# Altium schematic symbol library PBL - Resistors.SCHLIB: 223 symbols (part 2 of 4)
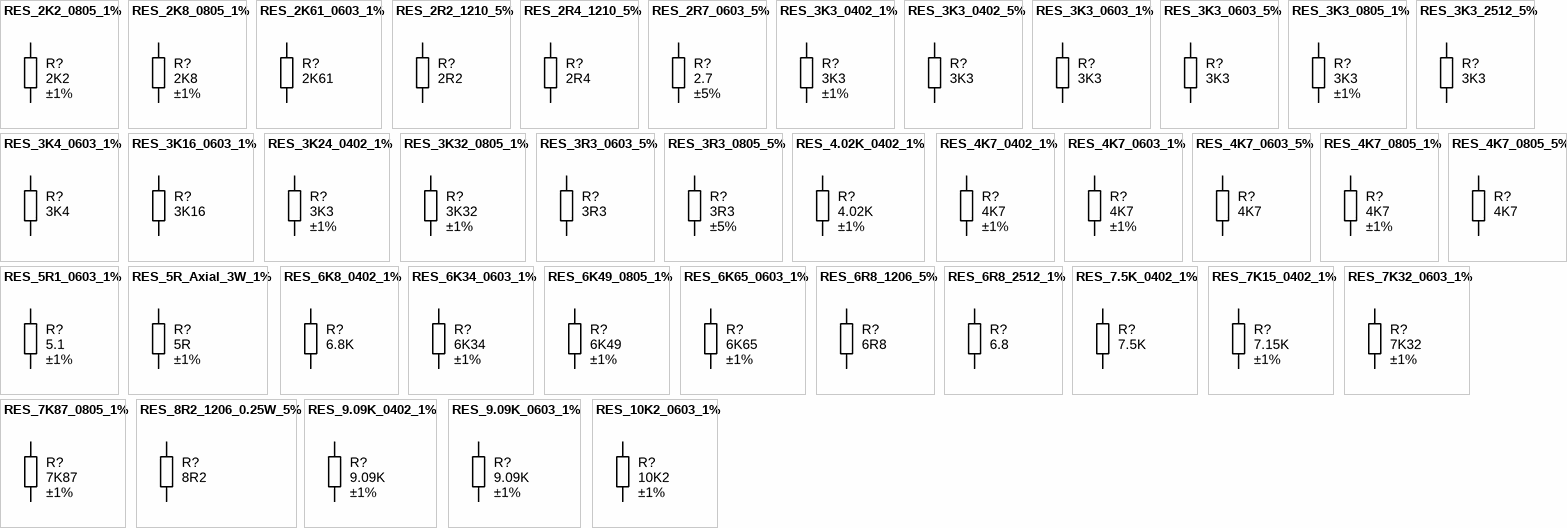
[diagram p7: symbols RES_2K2_0805_1% to RES_10K2_0603_1%]

## RES_4K7_0805_5%
designator R?, comment value 4K7  (hidden comment: Thick Film)
Resistor SMD chip 4.7k Ohm 0.125W 5% 0805; Manufacturer 1: Yageo; Manufacturer Part Number 1: RC0805JR-074K7L; Ratings: 1/8 W; SCDType: spec; Package / Case: 0805 (2012 metric); Tolerance: ±5%; Material: Thick Film; Supplier 1: Digi-Key; Supplier Part Number 1: 311-4.7KARCT-ND
footprint RESC2012X70N (Chip Resistor, Body 2.0x1.2mm, 0805, IPC Medium Density)
pins: 1, 2

## RES_5R1_0603_1%
designator R?, comment value 5.1  Tolerance: ±1%  (hidden comment: Thick Film)
Resistor SMD chip 5.1 Ohm 0.1W 1% 0603; Manufacturer: Yageo; Manufacturer Part Number: RC0603FR-075R1L; Power (Watts): 0.1W, 1/10W; Temperature Coefficient: ±200ppm/°C; Supplier 1: Digi-Key; Supplier Part Number 1: YAG3372CT-ND; RoHS: RoHS Compliant; Category: Resistors; Stock 1: 155319; Pricing 1: 1=0.1, 10=0.022, 100=0.009, 1000=0.00402, 2500=0.00349 (USD); Packaging: Cut Tape (CT); Part Status: Active; Composition: Thick Film; Features: Moisture Resistant; Operating Temperature: -55°C ~ 155°C; Package / Case: 0603 (1608 Metric); Supplier Device Package: 0603; Size / Dimension: 0.063" L x 0.031" W (1.60mm x 0.80mm); Height - Seated (Max): 0.022" (0.55mm); Failure Rate: -; ComponentLink1URL: http://www.yageo.com/documents/recent/PYu-RC_Group_51_RoHS_L_7.pdf; ComponentLink1Description: http://www.yageo.com/documents/recent/PYu-RC_Group_51_RoHS_L_7.pdf
footprint RESC1608X55N (Chip Resistor, Body 1.6x0.8mm, 0603, IPC Medium Density)
pins: 1, 2

## RES_5R_Axial_3W_1%
designator R?, comment value 5R  Tolerance: ±1%  (hidden comment: Wirewound)
Resistor THD 5 Ohm 3W 1% Wirewound; Manufacturer 1: Vishay/Dale; Manufacturer Part Number 1: RS02B5R000FE70; SCDType: spec; Package / Case: 4.75x15.80mm DxL; Ratings: 3W; Material: Wirewound; Size / Dimension: 0.187" Dia x 0.622" L (4.75mm x 15.80mm); ComponentLink1URL: http://www.vishay.com/doc?30204; ComponentLink1Description: http://www.vishay.com/doc?30204; Supplier 1: Digi-Key; Supplier Part Number 1: RSB-5.0RCT-ND
footprint RESTH_AXIAL_RS02B (Axial Resistor Thru-Hole; 2 Leads)
pins: 1, 2

## RES_6K8_0402_1%
designator R?, comment value 6.8K  (hidden comment: Thick Film)
Resistor SMD chip 6.8K Ohm 0.063W 1% 0402; Ratings: 1/16 W; SCDType: spec; Package / Case: 0402 (1005 metric); Tolerance: ±1%; Material: Thick Film; ComponentLink1URL: http://www.vishay.com/doc?20035; ComponentLink1Description: http://www.vishay.com/doc?20035; ComponentLink2URL: http://www.yageo.com/documents/recent/PYu-RC0402_51_RoHS_L_6.pdf; ComponentLink2Description: http://www.yageo.com/documents/recent/PYu-RC0402_51_RoHS_L_6.pdf; Supplier 1: Digi-Key; Supplier Part Number 1: 311-6.80KLRCT-ND
footprint RESC1005X40N (Chip Resistor, Body 1.0x0.5mm, EIA 0402, IPC Medium Density)
pins: 1, 2

## RES_6K34_0603_1%
designator R?, comment value 6K34  Tolerance: ±1%  (hidden comment: Thick Film)
Resistor SMD chip 6.34k Ohm 0.1W 1% 0603; Manufacturer 1: Yageo; Manufacturer Part Number 1: RC0603FR-076K34L; Ratings: 1/10W; SCDType: spec; Package / Case: 0603 (1608 Metric); Supplier 1: Digi-Key; Supplier Part Number 1: 311-6.34KHRCT-ND
footprint RESC1608X55N (Chip Resistor, Body 1.6x0.8mm, 0603, IPC Medium Density)
pins: 1, 2

## RES_6K49_0805_1%
designator R?, comment value 6K49  Tolerance: ±1%  (hidden comment: Thick Film)
Resistor SMD chip 6.49k Ohm 0.125W 1% 0805; Manufacturer: Vishay/Dale; Manufacturer Part Number: CRCW08056K49FKEA; Ratings: 1/8W; SCDType: spec; Package / Case: 0805 (2012 metric); Supplier 1: Digi-Key; Supplier Part Number 1: 541-6.49KCCT-ND
footprint RESC2012X70N (Chip Resistor, Body 2.0x1.2mm, 0805, IPC Medium Density)
pins: 1, 2

## RES_6K65_0603_1%
designator R?, comment value 6K65  Tolerance: ±1%  (hidden comment: Thick Film)
Resistor SMD chip 6.65k Ohm 0.1W 1% 0603; Manufacturer 1: Yageo; Manufacturer Part Number 1: RC0603FR-076K65L; Ratings: 1/10W; SCDType: spec; Package / Case: 0603 (1608 Metric); Supplier 1: Digi-Key; Supplier Part Number 1: 311-6.65KHRCT-ND; ComponentLink1URL: http://www.yageo.com/documents/recent/PYu-RC0603_51_RoHS_L_4.pdf; ComponentLink1Description: http://www.yageo.com/documents/recent/PYu-RC0603_51_RoHS_L_4.pdf
footprint RESC1608X55N (Chip Resistor, Body 1.6x0.8mm, 0603, IPC Medium Density)
pins: 1, 2

## RES_6R8_1206_5%
designator R?, comment value 6R8  (hidden comment: Thick Film)
Resistor SMD chip 6.8 Ohm 0.25W 5% 1206; Manufacturer 1: Vishay/Dale; Manufacturer Part Number 1: CRCW12066R80JNEA; Ratings: 1/4W; SCDType: spec; Tolerance: ±5%; Package / Case: 1206 (3216 metric); Supplier 1: Digi-Key; Supplier Part Number 1: 541-6.8ECT-ND
footprint RESC3216X70N (Chip Resistor, Body 3.2x1.6mm, 1206, IPC Medium Density)
pins: 1, 2

## RES_6R8_2512_1%
designator R?, comment value 6.8  (hidden comment: Thick Film)
RES SMD 6.8 OHM 5% 3W 2512; Tolerance: ±5%; Supplier 1: Digi-Key; Supplier Part Number 1: A121299CT-ND
footprint RESC6332X70N (Chip Resistor, Body 6.3x3.2mm, 2512, IPC Medium Density)
pins: 1, 2

## RES_7.5K_0402_1%
designator R?, comment value 7.5K  (hidden comment: Thick Film)
Resistor SMD chip 7.5k Ohm 0.063W 1% 0402; Ratings: 1/16 W; Package / Case: 0402 (1005 Metric); Tolerance: ±1%; Supplier 1: Digi-Key; Supplier Part Number 1: 311-7.50KLRCT-ND
footprint RESC1005X40N (Chip Resistor, Body 1.0x0.5mm, EIA 0402, IPC Medium Density)
pins: 1, 2

## RES_7K15_0402_1%
designator R?, comment value 7.15K  Tolerance: ±1%  (hidden comment: Thick Film)
Resistor SMD chip 7.15K 1% 0402; Manufacturer: Yageo; Manufacturer Part Number: RC0603FR-074K7L; Ratings: 1/10W; SCDType: undef; Package / Case: 0402 (1608 Metric); Supplier 1: Digi-Key; Supplier Part Number 1: P7.15KLCT-ND
footprint RESC1005X40N (Chip Resistor, Body 1.0x0.5mm, EIA 0402, IPC Medium Density)
pins: 1, 2

## RES_7K32_0603_1%
designator R?, comment value 7K32  Tolerance: ±1%  (hidden comment: Thick Film)
Resistor SMD chip 7.32 kOhm 0.1W 1% 0603; Manufacturer 1: Panasonic Electronic Components; Manufacturer Part Number 1: ERJ-3EKF7321V; Ratings: 1/10W; SCDType: Spec; Package / Case: 0603 (1608 Metric); Supplier 1: Digi-Key; Supplier Part Number 1: P7.32KHCT-ND; RoHS 1: RoHS Compliant; ComponentLink1URL: http://industrial.panasonic.com/www-cgi/jvcr13pz.cgi?E+PZ+3+AOA0002+ERJ3EKF7321V+7+WW; ComponentLink1Description: http://industrial.panasonic.com/www-cgi/jvcr13pz.cgi?E+PZ+3+AOA0002+ERJ3EKF7321V+7+WW; Supplier 2: Digi-Key; Supplier Part Number 2: 311-7.32KHRCT-ND; Manufacturer 2: Yageo; Manufacturer Part Number 2: RC0603FR-077K32L; RoHS 2: RoHS Compliant; ComponentLink2URL: http://www.yageo.com/documents/recent/PYu-RC0603_51_RoHS_L_4.pdf; ComponentLink2Description: http://www.yageo.com/documents/recent/PYu-RC0603_51_RoHS_L_4.pdf; Supplier 3: Digi-Key; Supplier Part Number 3: 541-7.32KHCT-ND; Manufacturer 3: Vishay Dale; Manufacturer Part Number 3: CRCW06037K32FKEA; RoHS 3: RoHS Compliant; ComponentLink3URL: http://www.vishay.com/doc?20035; ComponentLink3Description: http://www.vishay.com/doc?20035; Supplier 4: Digi-Key; Supplier Part Number 4: RHM7.32KCFCT-ND; Manufacturer 4: Rohm Semiconductor; Manufacturer Part Number 4: MCR03ERTF7321; RoHS 4: RoHS Compliant; ComponentLink4URL: http://rohmfs.rohm.com/en/products/databook/datasheet/passive/resistor/chip_resistor/mcr_g.pdf; ComponentLink4Description: http://rohmfs.rohm.com/en/products/databook/datasheet/passive/resistor/chip_resistor/mcr_g.pdf
footprint RESC1608X55N (Chip Resistor, Body 1.6x0.8mm, 0603, IPC Medium Density)
pins: 1, 2

## RES_7K87_0805_1%
designator R?, comment value 7K87  Tolerance: ±1%  (hidden comment: Thick Film)
Resistor SMD chip 7.87k Ohm 0.125W 1% 0805; Manufacturer 1: Vishay/Dale; Manufacturer Part Number 1: CRCW08057K87FKEA; Ratings: 1/8W; SCDType: spec; Package / Case: 0805 (2012 metric); Supplier 1: Digi-Key; Supplier Part Number 1: 541-7.87KCCT-ND
footprint RESC2012X70N (Chip Resistor, Body 2.0x1.2mm, 0805, IPC Medium Density)
pins: 1, 2

## RES_8R2_1206_0.25W_5%
designator R?, comment value 8R2  (hidden comment: Thick Film)
Resistor SMD chip 8.2 Ohm 0.25W 5% 1206; Manufacturer 1: Royal Ohm; Manufacturer Part Number 1: 1206WAJ08R2; Ratings: 1/4 W; SCDType: spec; Package / Case: 1206 (3216 metric); Tolerance: ±5%
footprint RESC3216X70N (Chip Resistor, Body 3.2x1.6mm, 1206, IPC Medium Density)
pins: 1, 2

## RES_9.09K_0402_1%
designator R?, comment value 9.09K  Tolerance: ±1%  (hidden comment: Thick Film)
Resistor SMD chip 9.09K Ohm 0.063W 1% 0402; Ratings: 1/16 W; SCDType: spec; Package / Case: 0402 (1005 Metric); ComponentLink1URL: http://www.vishay.com/doc?20035; ComponentLink1Description: http://www.vishay.com/doc?20035; ComponentLink2URL: http://www.yageo.com/documents/recent/PYu-RC0402_51_RoHS_L_6.pdf; ComponentLink2Description: http://www.yageo.com/documents/recent/PYu-RC0402_51_RoHS_L_6.pdf; Supplier 1: Digi-Key; Supplier Part Number 1: YAG3268CT-ND
footprint RESC1005X40N (Chip Resistor, Body 1.0x0.5mm, EIA 0402, IPC Medium Density)
pins: 1, 2

## RES_9.09K_0603_1%
designator R?, comment value 9.09K  Tolerance: ±1%  (hidden comment: Thick Film)
Resistor SMD chip 9.09K Ohm 0.063W 1% 0603; Manufacturer: Panasonic; Manufacturer Part Number: ERJ-3EKF9091V; Description: Res Thick Film 0603 9.09K Ohm 1% 0.1W(1/10W) ±100ppm/C Molded SMD Automotive Punched T/R; Rated Power: 0.1 W; Temp Coefficient: ±100 ppm/°C; Resistance: 9.09 kO; Supplier 1: Digi-Key; Supplier Part Number 1: P9.09KHCT-ND; Stock 1: 268358; Pricing 1: 1=0.1, 10=0.079, 100=0.0323, 1000=0.0145, 2500=0.0126 (USD); Size Code: 0603; Tolerance (%): ±1 %
footprint RESC1608X55N (Chip Resistor, Body 1.6x0.8mm, EIA 0603, IPC Medium Density)
pins: 1, 2

## RES_10K2_0603_1%
designator R?, comment value 10K2  Tolerance: ±1%  (hidden comment: Thick Film)
Resistor SMD chip 10.2K Ohm 0.1W 1% 0603; Manufacturer 1: Yageo; Manufacturer Part Number 1: RC0603FR-0710K2L; Ratings: 1/10W; Parameter Name: ±100ppm/°C; SCDType: undef; Package / Case: 0603 (1608 Metric); ComponentLink1URL: http://www.yageo.com/documents/recent/PYu-RC0603_51_RoHS_L_4.pdf; ComponentLink1Description: http://www.yageo.com/documents/recent/PYu-RC0603_51_RoHS_L_4.pdf; Supplier 1: Digi-Key; Supplier Part Number 1: 311-10.2KHRCT-ND
footprint RESC1608X55N (Chip Resistor, Body 1.6x0.8mm, 0603, IPC Medium Density)
pins: 1, 2

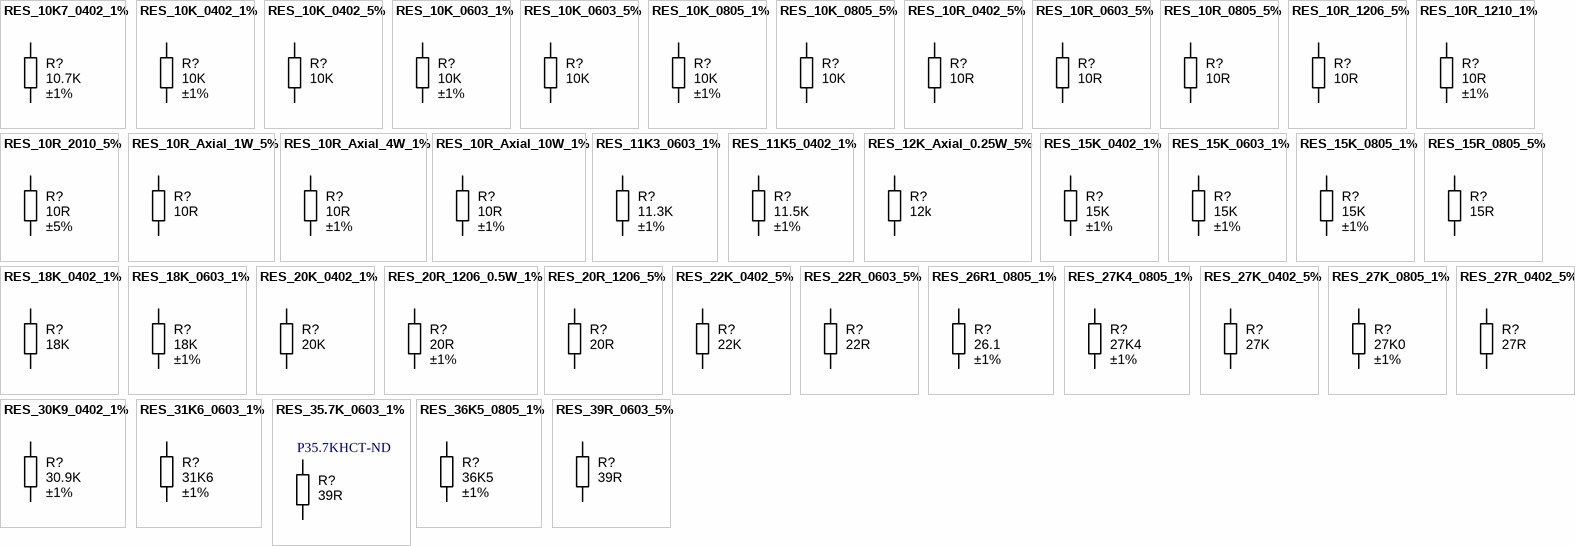
[diagram p2: symbols RES_10K7_0402_1% to RES_39R_0603_5%]

## RES_10K7_0402_1%
designator R?, comment value 10.7K  Tolerance: ±1%  (hidden comment: Thick Film)
Resistor SMD chip 10.7K 1% 0402; Manufacturer: Yageo; Manufacturer Part Number: RC0603FR-074K7L; Ratings: 1/10W; SCDType: undef; Package / Case: 0402 (1608 Metric); Supplier 1: Digi-Key; Supplier Part Number 1: P10.7KLCT-ND
footprint RESC1005X40N (Chip Resistor, Body 1.0x0.5mm, EIA 0402, IPC Medium Density)
pins: 1, 2

## RES_10K_0402_1%
designator R?, comment value 10K  Tolerance: ±1%  (hidden comment: Thick Film)
Resistor SMD chip 10k Ohm 0.063W 1% 0402; Manufacturer 1: Vishay Dale; Manufacturer Part Number 1: CRCW040210K0FKED; Ratings: 1/16 W; SCDType: spec; Package / Case: 0402 (1005 Metric); Manufacturer 2: Yageo; Manufacturer Part Number 2: RC0402FR-0710KL; Supplier 1: Digi-Key; Supplier Part Number 1: 541-10.0KLCT-ND; ComponentLink1URL: http://www.vishay.com/doc?20035; ComponentLink1Description: http://www.vishay.com/doc?20035; Supplier 2: Digi-Key; Supplier Part Number 2: 311-10.0KLRCT-ND; ComponentLink2URL: http://www.yageo.com/documents/recent/PYu-RC0402_51_RoHS_L_6.pdf; ComponentLink2Description: http://www.yageo.com/documents/recent/PYu-RC0402_51_RoHS_L_6.pdf
footprint RESC1005X40N (Chip Resistor, Body 1.0x0.5mm, EIA 0402, IPC Medium Density)
pins: 1, 2

## RES_10K_0402_5%
designator R?, comment value 10K  (hidden comment: Thick Film)
Resistor SMD chip 10k Ohm 0.063W 5% 0402; Ratings: 1/16 W; SCDType: undef; Package / Case: 0402 (1005 Metric); Tolerance: ±5%; ComponentLink1URL: http://www.vishay.com/doc?20035; ComponentLink1Description: http://www.vishay.com/doc?20035; ComponentLink2URL: http://www.yageo.com/documents/recent/PYu-RC0402_51_RoHS_L_6.pdf; ComponentLink2Description: http://www.yageo.com/documents/recent/PYu-RC0402_51_RoHS_L_6.pdf; Supplier 1: Digi-Key; Supplier Part Number 1: 311-10KJRCT-ND
footprint RESC1005X40N (Chip Resistor, Body 1.0x0.5mm, EIA 0402, IPC Medium Density)
pins: 1, 2

## RES_10K_0603_1%
designator R?, comment value 10K  Tolerance: ±1%  (hidden comment: Thick Film)
Resistor SMD chip 10k Ohm 0.1W 1% 0603; Manufacturer 1: Yageo; Manufacturer Part Number 1: RC0603FR-0710KL; Ratings: 1/10W; SCDType: spec; Package / Case: 0603 (1608 Metric); Supplier 1: Digi-Key; Supplier Part Number 1: 311-10.0KHRCT-ND
footprint RESC1608X55N (Chip Resistor, Body 1.6x0.8mm, 0603, IPC Medium Density)
pins: 1, 2

## RES_10K_0603_5%
designator R?, comment value 10K  (hidden comment: Thick Film)
Resistor SMD chip 10k Ohm 0.1W 5% 0603; Manufacturer 1: Yageo; Manufacturer Part Number 1: RC0603JR-0710KL; Ratings: 1/10 W; SCDType: spec; Package / Case: 0603 (1608 metric); Tolerance: ±5%; Material: Thick Film; Supplier 1: Digi-Key; Supplier Part Number 1: 311-10KGRCT-ND; Supplier 2: Digi-Key; Supplier Part Number 2: 541-10KGCT-ND; Manufacturer 2: Vishay Dale; Manufacturer Part Number 2: CRCW060310K0JNEA; ComponentLink2URL: http://www.vishay.com/doc?20035; ComponentLink2Description: http://www.vishay.com/doc?20035; ComponentLink1URL: http://www.yageo.com/documents/recent/PYu-RC0603_51_RoHS_L_4.pdf; ComponentLink1Description: http://www.yageo.com/documents/recent/PYu-RC0603_51_RoHS_L_4.pdf
footprint RESC1608X55N (Chip Resistor, Body 1.6x0.8mm, 0603, IPC Medium Density)
pins: 1, 2

## RES_10K_0805_1%
designator R?, comment value 10K  Tolerance: ±1%  (hidden comment: Thick Film)
Resistor SMD chip 10k Ohm 0.125W 1% 0805; Manufacturer 1: Vishay/Dale; Manufacturer Part Number 1: CRCW080510K0FKEA; Ratings: 1/8W; SCDType: spec; Package / Case: 0805 (2012 metric); Supplier 1: Digi-Key; Supplier Part Number 1: 541-10.0KCCT-ND; Material: Thick Film
footprint RESC2012X70N (Chip Resistor, Body 2.0x1.2mm, 0805, IPC Medium Density)
pins: 1, 2

## RES_10K_0805_5%
designator R?, comment value 10K  (hidden comment: Thick Film)
Resistor SMD chip 10k Ohm 0.125W 5% 0805; Manufacturer 1: Yageo; Manufacturer Part Number 1: RC0805JR-0710KL; Ratings: 1/8 W; SCDType: spec; Package / Case: 0805 (2012 metric); Tolerance: ±5%; Material: Thick Film; Supplier 1: Digi-Key; Supplier Part Number 1: 311-10KARCT-ND
footprint RESC2012X70N (Chip Resistor, Body 2.0x1.2mm, 0805, IPC Medium Density)
pins: 1, 2

## RES_10R_0402_5%
designator R?, comment value 10R  (hidden comment: Thick Film)
Resistor SMD chip 10 Ohm 0.063W 5% 0402; Manufacturer 1: Yageo; Manufacturer Part Number 1: RC0402JR-0710RL; Ratings: 1/16 W; SCDType: spec; Package / Case: 0402 (1005 Metric); Tolerance: ±5%; Supplier 1: Digi-Key; Supplier Part Number 1: 311-10JRCT-ND; RoHS 1: RoHS Compliant; ComponentLink1URL: http://www.yageo.com/documents/recent/PYu-RC0402_51_RoHS_L_6.pdf; ComponentLink1Description: http://www.yageo.com/documents/recent/PYu-RC0402_51_RoHS_L_6.pdf; Supplier 2: Digi-Key; Supplier Part Number 2: RHM10CECT-ND; Manufacturer 2: Rohm Semiconductor; Manufacturer Part Number 2: MCR01MRTJ100; RoHS 2: RoHS Compliant; ComponentLink2URL: http://rohmfs.rohm.com/en/products/databook/datasheet/passive/resistor/chip_resistor/mcr_g.pdf; ComponentLink2Description: http://rohmfs.rohm.com/en/products/databook/datasheet/passive/resistor/chip_resistor/mcr_g.pdf; Supplier 3: Digi-Key; Supplier Part Number 3: 541-10JCT-ND; Manufacturer 3: Vishay Dale; Manufacturer Part Number 3: CRCW040210R0JNED; RoHS 3: RoHS Compliant; ComponentLink3URL: http://www.vishay.com/doc?20035; ComponentLink3Description: http://www.vishay.com/doc?20035; Supplier 4: Digi-Key; Supplier Part Number 4: RMCF0402JT10R0CT-ND; Manufacturer 4: Stackpole Electronics Inc; Manufacturer Part Number 4: RMCF0402JT10R0; RoHS 4: RoHS Compliant; ComponentLink4URL: http://www.seielect.com/Catalog/SEI-RMCF_RMCP.pdf; ComponentLink4Description: http://www.seielect.com/Catalog/SEI-RMCF_RMCP.pdf; Supplier 5: Digi-Key; Supplier Part Number 5: 1276-4328-1-ND; Manufacturer 5: Samsung Electro-Mechanics America, Inc; Manufacturer Part Number 5: RC1005J100CS; RoHS 5: RoHS Compliant; ComponentLink5URL: http://www.samsungsem.com/servlet/FileDownload?filename=productcatalog/pdf/Chip_Resistor.pdf; ComponentLink5Description: http://www.samsungsem.com/servlet/FileDownload?filename=productcatalog/pdf/Chip_Resistor.pdf
footprint RESC1005X40N (Chip Resistor, Body 1.0x0.5mm, EIA 0402, IPC Medium Density)
pins: 1, 2

## RES_10R_0603_5%
designator R?, comment value 10R  (hidden comment: Thick Film)
Resistor SMD chip 10 Ohm 0.1W 5% 0603; Manufacturer 1: Yageo; Manufacturer Part Number 1: RC0603JR-0710RL; Ratings: 1/10 W; SCDType: spec; Package / Case: 0603 (1608 metric); Tolerance: ±5%; Supplier 1: Digi-Key; Supplier Part Number 1: 311-10GRCT-ND; ComponentLink1URL: http://www.yageo.com/documents/recent/PYu-RC0603_51_RoHS_L_4.pdf; ComponentLink1Description: http://www.yageo.com/documents/recent/PYu-RC0603_51_RoHS_L_4.pdf
footprint RESC1608X55N (Chip Resistor, Body 1.6x0.8mm, 0603, IPC Medium Density)
pins: 1, 2

## RES_10R_0805_5%
designator R?, comment value 10R  (hidden comment: Thick Film)
Resistor SMD chip 10 Ohm 0.125W 5% 0805; Manufacturer 1: Vishay/Dale; Manufacturer Part Number 1: CRCW080510R0JNEA; Ratings: 1/8W; SCDType: spec; Tolerance: ±5%; Package / Case: 0805 (2012 metric); Supplier 1: Digi-Key; Supplier Part Number 1: 541-10ATR-ND
footprint RESC2012X70N (Chip Resistor, Body 2.0x1.2mm, 0805, IPC Medium Density)
pins: 1, 2

## RES_10R_1206_5%
designator R?, comment value 10R  (hidden comment: Thick Film)
Resistor SMD chip 10 Ohm 0.25W 5% 1206; Manufacturer 1: Samsung Electro-Mechanics America, Inc; Manufacturer Part Number 1: RC3216J100CS; Ratings: 1/4W; SCDType: spec; Tolerance: ±5%; Package / Case: 1206 (3216 metric); Supplier 1: Digi-Key; Supplier Part Number 1: 1276-5863-1-ND; RoHS 1: RoHS Compliant; ComponentLink1URL: http://www.samsungsem.com/servlet/FileDownload?filename=productcatalog/pdf/Chip_Resistor.pdf; ComponentLink1Description: http://www.samsungsem.com/servlet/FileDownload?filename=productcatalog/pdf/Chip_Resistor.pdf; Supplier 2: Digi-Key; Supplier Part Number 2: 311-10ERCT-ND; Manufacturer 2: Yageo; Manufacturer Part Number 2: RC1206JR-0710RL; RoHS 2: RoHS Compliant; ComponentLink2URL: http://www.yageo.com/documents/recent/PYu-RC1206_51_RoHS_L-4.pdf; ComponentLink2Description: http://www.yageo.com/documents/recent/PYu-RC1206_51_RoHS_L-4.pdf; Supplier 3: Digi-Key; Supplier Part Number 3: RMCF1206JT10R0CT-ND; Manufacturer 3: Stackpole Electronics Inc; Manufacturer Part Number 3: RMCF1206JT10R0; RoHS 3: RoHS Compliant; ComponentLink3URL: http://www.seielect.com/Catalog/SEI-RMCF_RMCP.pdf; ComponentLink3Description: http://www.seielect.com/Catalog/SEI-RMCF_RMCP.pdf; Supplier 4: Digi-Key; Supplier Part Number 4: P10ECT-ND; Manufacturer 4: Panasonic Electronic Components; Manufacturer Part Number 4: ERJ-8GEYJ100V; RoHS 4: RoHS Compliant; ComponentLink4URL: http://industrial.panasonic.com/www-cgi/jvcr13pz.cgi?E+PZ+3+AOA0001+ERJ8GEYJ100V+7+WW; ComponentLink4Description: http://industrial.panasonic.com/www-cgi/jvcr13pz.cgi?E+PZ+3+AOA0001+ERJ8GEYJ100V+7+WW; Supplier 5: Digi-Key; Supplier Part Number 5: RHM10CKCT-ND; Manufacturer 5: Rohm Semiconductor; Manufacturer Part Number 5: MCR18ERTJ100; RoHS 5: RoHS Compliant; ComponentLink5URL: http://rohmfs.rohm.com/en/products/databook/datasheet/passive/resistor/chip_resistor/mcr_g.pdf; ComponentLink5Description: http://rohmfs.rohm.com/en/products/databook/datasheet/passive/resistor/chip_resistor/mcr_g.pdf
footprint RESC3216X70N (Chip Resistor, Body 3.2x1.6mm, 1206, IPC Medium Density)
pins: 1, 2

## RES_10R_1210_1%
designator R?, comment value 10R  Tolerance: ±1%  (hidden comment: Thick Film)
Resistor SMD chip 10 Ohm 0.5W 1% 1210; Manufacturer 1: Panasonic - ECG; Manufacturer Part Number 1: ERJ-14NF10R0U; Ratings: 1/2W; SCDType: spec; Package / Case: 1210 (3225 Metric); Supplier 1: Digi-Key; Supplier Part Number 1: P10.0AACT-ND; ComponentLink1URL: http://industrial.panasonic.com/www-cgi/jvcr13pz.cgi?E+PZ+3+AOA0002+ERJ14NF10R0U+7+WW; ComponentLink1Description: http://industrial.panasonic.com/www-cgi/jvcr13pz.cgi?E+PZ+3+AOA0002+ERJ14NF10R0U+7+WW
footprint RESC3225X70N (Chip Resistor, Body 3.2x2.5mm, 1210, IPC Medium Density)
pins: 1, 2

## RES_10R_2010_5%
designator R?, comment value 10R  Tolerance: ±5%  (hidden comment: Thick Film)
Resistor SMD chip 10 Ohm 0.25W 5% 2010; Manufacturer 1: Vishay/Dale; Manufacturer Part Number 1: CRCW120610R0JNEA; Ratings: 1/4W; SCDType: undef; Package / Case: 2010; Supplier 1: Digi-Key; Supplier Part Number 1: 541-10ECT-ND; ComponentLink1URL: http://www.vishay.com/doc?20035; ComponentLink1Description: http://www.vishay.com/doc?20035
footprint RESC5025X70N (Chip Resistor, Body 5.0x2.5mm, 2010, IPC Medium Density)
pins: 1, 2

## RES_10R_Axial_1W_5%
designator R?, comment value 10R  (hidden comment: Metal Film)
Resistor THD 10 Ohm 1W 5% Metal Film; Manufacturer 1: Vishay/BC Components; Manufacturer Part Number 1: PR01000101009JR500; SCDType: spec; Tolerance: ±5%; Package / Case: 2.5x8.0mm DxL; Ratings: 1W; Supplier 1: Digi-Key; Supplier Part Number 1: PPC10W-1CT-ND
footprint AXIAL-0.6 (Axial Device, Thru-Hole; 2 Leads; 0.6 in Pin Spacing)
pins: 1, 2

## RES_10R_Axial_4W_1%
designator R?, comment value 10R  Tolerance: ±1%  (hidden comment: Wirewound)
Resistor THD 10 Ohm 4W 1% Wirewound; Manufacturer Part Number 1: MRA-0510R00FE12; Manufacturer 1: Vishay Dale; Ratings: 4W; 30ppm; Parameter Name: 0.167" Dia x 0.562" L (4.24mm x 14.27mm); SCDType: undef; Package / Case: 4.24x14.27mm DxL; Material: Wirewound; Size / Dimension: 0.187" Dia x 0.622" L (4.75mm x 15.80mm); ComponentLink1URL: http://media.digikey.com/pdf/Data%20Sheets/Vishay%20Dale%20PDFs/MRA_Series.pdf; ComponentLink1Description: MRA Series datasheet; Supplier 1: Digi-Key; Supplier Part Number 1: MRA05-10-ND; Features: Non-Inductive, Non-Magnetic
footprint RESTH_AXIAL_MRA-05 (MRA-05 Axial Resistor Thru-Hole; 2 Leads)
pins: 1, 2

## RES_10R_Axial_10W_1%
designator R?, comment value 10R  Tolerance: ±1%  (hidden comment: Wirewound)
Resistor THD 10 Ohm 10W 1% Wirewound; Manufacturer 1: Vishay/Dale; Manufacturer Part Number 1: RS01010R00FE73; SCDType: spec; Package / Case: 9.53x47.50mm DxL; Ratings: 10W; Supplier 1: Digi-Key; Supplier Part Number 1: RSD-10RCT-ND; Material: Wirewound; Size / Dimension: 0.375" Dia x 1.870" L (9.53mm x 47.50mm); ComponentLink1URL: http://www.vishay.com/doc?30204; ComponentLink1Description: http://www.vishay.com/doc?30204
footprint RESTH_AXIAL_RS010 (Axial Resistor Thru-Hole; 2 Leads)
pins: 1, 2

## RES_11K3_0603_1%
designator R?, comment value 11.3K  Tolerance: ±1%  (hidden comment: Thick Film)
Resistor SMD chip 11.3K Ohm 0.1W 1% 0603; Manufacturer: Panasonic Electronic Components; Manufacturer Part Number: ERJ-3EKF1132V; Power (Watts): 0.1W, 1/10W; Temperature Coefficient: ±100ppm/°C; Supplier 1: Digi-Key; Supplier Part Number 1: P11.3KHCT-ND; RoHS: RoHS Compliant; Category: Resistors; Stock 1: 3221; Pricing 1: 1=0.1, 10=0.021, 100=0.0087, 1000=0.00389, 2500=0.00338 (USD); Packaging: Cut Tape (CT); Part Status: Active; Composition: Thick Film; Features: Automotive AEC-Q200; Operating Temperature: -55°C ~ 155°C; Package / Case: 0603 (1608 Metric); Supplier Device Package: 0603; Size / Dimension: 0.063" L x 0.031" W (1.60mm x 0.80mm); Height - Seated (Max): 0.022" (0.55mm); Failure Rate: -; ComponentLink1URL: https://industrial.panasonic.com/cdbs/www-data/pdf/RDA0000/AOA0000C304.pdf; ComponentLink1Description: https://industrial.panasonic.com/cdbs/www-data/pdf/RDA0000/AOA0000C304.pdf
footprint RESC1608X55N (Chip Resistor, Body 1.6x0.8mm, 0603, IPC Medium Density)
pins: 1, 2

## RES_11K5_0402_1%
designator R?, comment value 11.5K  Tolerance: ±1%  (hidden comment: Thick Film)
Resistor SMD chip 11.5K 1% 0402; Manufacturer: Yageo; Manufacturer Part Number: RC0603FR-074K7L; Ratings: 1/10W; SCDType: undef; Package / Case: 0402 (1608 Metric); Supplier 1: Digi-Key; Supplier Part Number 1: P11.5KLCT-ND
footprint RESC1005X40N (Chip Resistor, Body 1.0x0.5mm, EIA 0402, IPC Medium Density)
pins: 1, 2

## RES_12K_Axial_0.25W_5%
designator R?, comment value 12k  (hidden comment: Carbon Film)
Resistor THD Axial 12k Ohm 0.25W 5% Carbon Film; Manufacturer 1: Yageo; Manufacturer Part Number 1: CFR-25JB-12K; Ratings: 1/4W; SCDType: spec; Tolerance: ±5%; Package / Case: Axial; Supplier 1: Digi-Key; Supplier Part Number 1: 12KQBK-ND
footprint RESTH_AXIAL-0.4
pins: 1, 2

## RES_15K_0402_1%
designator R?, comment value 15K  Tolerance: ±1%  (hidden comment: Thick Film)
Resistor SMD chip 15k Ohm 0.063W 1% 0402; Manufacturer 1: Vishay Dale; Manufacturer Part Number 1: CRCW040215K0FKED; Ratings: 1/16 W; SCDType: spec; Package / Case: 0402 (1005 Metric); Manufacturer 2: Yageo; Manufacturer Part Number 2: RC0402FR-0715KL; Supplier 1: Digi-Key; Supplier Part Number 1: 541-15.0KLCT-ND; ComponentLink1URL: http://www.vishay.com/doc?20035; ComponentLink1Description: http://www.vishay.com/doc?20035; Supplier 2: Digi-Key; Supplier Part Number 2: 311-15.0KLRCT-ND; ComponentLink2URL: http://www.yageo.com/documents/recent/PYu-RC0402_51_RoHS_L_6.pdf; ComponentLink2Description: http://www.yageo.com/documents/recent/PYu-RC0402_51_RoHS_L_6.pdf
footprint RESC1005X40N (Chip Resistor, Body 1.0x0.5mm, EIA 0402, IPC Medium Density)
pins: 1, 2

## RES_15K_0603_1%
designator R?, comment value 15K  Tolerance: ±1%  (hidden comment: Thick Film)
Resistor SMD chip 15k Ohm 0.1W 1% 0603; Manufacturer 1: Rohm Semiconductor; Manufacturer Part Number 1: MCR03ERTF1502; Ratings: 1/10 W; SCDType: spec; Package / Case: 0603 (1608 metric); Material: Thick Film; Supplier 1: Digi-Key; Supplier Part Number 1: RHM15.0KCFCT-ND; RoHS 1: RoHS Compliant; ComponentLink1URL: http://rohmfs.rohm.com/en/products/databook/datasheet/passive/resistor/chip_resistor/mcr_g.pdf; ComponentLink1Description: http://rohmfs.rohm.com/en/products/databook/datasheet/passive/resistor/chip_resistor/mcr_g.pdf; Supplier 2: Digi-Key; Supplier Part Number 2: 311-15.0KHRCT-ND; Manufacturer 2: Yageo; Manufacturer Part Number 2: RC0603FR-0715KL; RoHS 2: RoHS Compliant; ComponentLink2URL: http://www.yageo.com/documents/recent/PYu-RC0603_51_RoHS_L_4.pdf; ComponentLink2Description: http://www.yageo.com/documents/recent/PYu-RC0603_51_RoHS_L_4.pdf; Supplier 3: Digi-Key; Supplier Part Number 3: P15.0KHCT-ND; Manufacturer 3: Panasonic Electronic Components; Manufacturer Part Number 3: ERJ-3EKF1502V; RoHS 3: RoHS Compliant; ComponentLink3URL: http://industrial.panasonic.com/www-cgi/jvcr13pz.cgi?E+PZ+3+AOA0002+ERJ3EKF1502V+7+WW; ComponentLink3Description: http://industrial.panasonic.com/www-cgi/jvcr13pz.cgi?E+PZ+3+AOA0002+ERJ3EKF1502V+7+WW; Supplier 4: Digi-Key; Supplier Part Number 4: RMCF0603FT15K0CT-ND; Manufacturer 4: Stackpole Electronics Inc; Manufacturer Part Number 4: RMCF0603FT15K0; RoHS 4: RoHS Compliant; ComponentLink4URL: http://www.seielect.com/Catalog/SEI-RMCF_RMCP.pdf; ComponentLink4Description: http://www.seielect.com/Catalog/SEI-RMCF_RMCP.pdf; Supplier 5: Digi-Key; Supplier Part Number 5: 541-15.0KSCT-ND; Manufacturer 5: Vishay Dale; Manufacturer Part Number 5: CRCW060315K0FKEAHP; RoHS 5: RoHS Compliant; ComponentLink5URL: http://www.vishay.com/docs/20043/crcwhpe3.pdf; ComponentLink5Description: http://www.vishay.com/docs/20043/crcwhpe3.pdf
footprint RESC1608X55N (Chip Resistor, Body 1.6x0.8mm, 0603, IPC Medium Density)
pins: 1, 2

## RES_15K_0805_1%
designator R?, comment value 15K  Tolerance: ±1%  (hidden comment: Thick Film)
Resistor SMD chip 15k Ohm 0.125W 1% 0805; Manufacturer 1: Vishay/Dale; Manufacturer Part Number 1: CRCW080515K0FKEA; Ratings: 1/8W; SCDType: spec; Package / Case: 0805 (2012 metric); Supplier 1: Digi-Key; Supplier Part Number 1: 541-15.0KCCT-ND
footprint RESC2012X70N (Chip Resistor, Body 2.0x1.2mm, 0805, IPC Medium Density)
pins: 1, 2

## RES_15R_0805_5%
designator R?, comment value 15R  (hidden comment: Thick Film)
Resistor SMD chip 15 Ohm 0.125W 5% 0805; Manufacturer 1: Yageo; Manufacturer Part Number 1: RC0805JR-0715RL; Ratings: 1/8W; SCDType: spec; Tolerance: ±5%; Package / Case: 0805 (2012 metric); Supplier 1: Digi-Key; Supplier Part Number 1: 311-15ARCT-ND; RoHS 1: RoHS Compliant; ComponentLink1URL: http://media.digikey.com/pdf/Data%20Sheets/Yageo%20PDFs/RC0805%20Pb%20Free.pdf; ComponentLink1Description: http://media.digikey.com/pdf/Data%20Sheets/Yageo%20PDFs/RC0805%20Pb%20Free.pdf; Supplier 2: Digi-Key; Supplier Part Number 2: P15ACT-ND; Manufacturer 2: Panasonic Electronic Components; Manufacturer Part Number 2: ERJ-6GEYJ150V; RoHS 2: RoHS Compliant; ComponentLink2URL: http://industrial.panasonic.com/www-cgi/jvcr13pz.cgi?E+PZ+3+AOA0001+ERJ6GEYJ150V+7+WW; ComponentLink2Description: http://industrial.panasonic.com/www-cgi/jvcr13pz.cgi?E+PZ+3+AOA0001+ERJ6GEYJ150V+7+WW; Supplier 3: Digi-Key; Supplier Part Number 3: RMCF0805JT15R0CT-ND; Manufacturer 3: Stackpole Electronics Inc; Manufacturer Part Number 3: RMCF0805JT15R0; RoHS 3: RoHS Compliant; ComponentLink3URL: http://www.seielect.com/Catalog/SEI-RMCF_RMCP.pdf; ComponentLink3Description: http://www.seielect.com/Catalog/SEI-RMCF_RMCP.pdf; Supplier 4: Digi-Key; Supplier Part Number 4: 541-15ACT-ND; Manufacturer 4: Vishay Dale; Manufacturer Part Number 4: CRCW080515R0JNEA; RoHS 4: RoHS Compliant; ComponentLink4URL: http://www.vishay.com/doc?20035; ComponentLink4Description: http://www.vishay.com/doc?20035
footprint RESC2012X70N (Chip Resistor, Body 2.0x1.2mm, 0805, IPC Medium Density)
pins: 1, 2

## RES_18K_0402_1%
designator R?, comment value 18K  (hidden comment: Thick Film)
Resistor SMD chip 18k Ohm 0.063W 5% 0402; Manufacturer: Panasonic; Manufacturer Part Number: ERJ-2RKF1802X; Resistance: 18kR; Power Rating: 100mW; Tolerance: 1%; Voltage Rating: 50V; Temperature Coefficient: 100ppm/°C; Supplier 1: Digi-Key; Supplier Part Number 1: P18.0KLDKR-ND; Stock 1: 601463; Pricing 1: 1=0.1, 10=0.043, 100=0.0176, 1000=0.0079, 2500=0.0069, 5000=0.0057 (USD); Mount: Surface Mount; Case/Package: 0402; Number of Pins: 2; Weight: 2.8E-05oz; Case Code (Imperial): 0402; Case Code (Metric): 1005; Contact Plating: Tin; Min Operating Temperature: -55°C; Max Operating Temperature: 155°C; Packaging: Tape and Reel; Package Quantity: 10000; Composition: Thick Film; Termination: SMD/SMT; Voltage Rating (DC): 50V; Number of Terminations: 2; Military Standard: Not; Max Power Dissipation: 100mW; Length: 1mm; Height: 0.35mm; Width: 0.5mm; Depth: 0.5mm; Radiation Hardening: No; REACH SVHC: No SVHC; ComponentLink1URL: https://datasheet.ciiva.com/9119/aoa0000ce2-9119125.pdf; ComponentLink1Description: https://datasheet.ciiva.com/9119/aoa0000ce2-9119125.pdf; ComponentLink2URL: https://datasheet.ciiva.com/11821/0900766b80f80784-11821206.pdf; ComponentLink2Description: https://datasheet.ciiva.com/11821/0900766b80f80784-11821206.pdf; ComponentLink3URL: https://datasheet.ciiva.com/16768/70260748-16768742.pdf; ComponentLink3Description: https://datasheet.ciiva.com/16768/70260748-16768742.pdf; ComponentLink4URL: https://datasheet.ciiva.com/30215/aoa0000ce2-30215030.pdf; ComponentLink4Description: https://datasheet.ciiva.com/30215/aoa0000ce2-30215030.pdf; ComponentLink5URL: https://datasheet.ciiva.com/16759/70260748-16759320.pdf; ComponentLink5Description: https://datasheet.ciiva.com/16759/70260748-16759320.pdf; ComponentLink6URL: https://datasheet.ciiva.com/5860/aoa0000ce2-5860649.pdf; ComponentLink6Description: https://datasheet.ciiva.com/5860/aoa0000ce2-5860649.pdf; ComponentLink7URL: https://datasheet.ciiva.com/43467/1678782-43467420.pdf; ComponentLink7Description: https://datasheet.ciiva.com/43467/1678782-43467420.pdf; ComponentLink8URL: https://datasheet.ciiva.com/7944/aoa0000ce2-7944605.pdf; ComponentLink8Description: https://datasheet.ciiva.com/7944/aoa0000ce2-7944605.pdf; ComponentLink9URL: https://datasheet.ciiva.com/46373/1678782-46373917.pdf; ComponentLink9Description: https://datasheet.ciiva.com/46373/1678782-46373917.pdf; ComponentLink10URL: https://datasheet.ciiva.com/46373/1678782-46373918.pdf; ComponentLink10Description: https://datasheet.ciiva.com/46373/1678782-46373918.pdf; ComponentLink11URL: https://datasheet.ciiva.com/22684/1678782-22684767.pdf; ComponentLink11Description: https://datasheet.ciiva.com/22684/1678782-22684767.pdf; ComponentLink12URL: https://datasheet.ciiva.com/22687/1678782-22687407.pdf; ComponentLink12Description: https://datasheet.ciiva.com/22687/1678782-22687407.pdf
footprint RESC1005X40N (Chip Resistor, Body 1.0x0.5mm, EIA 0402, IPC Medium Density)
pins: 1, 2

## RES_18K_0603_1%
designator R?, comment value 18K  Tolerance: ±1%  (hidden comment: Thick Film)
Resistor SMD chip 18K Ohm 0.1W 1% 0603; Manufacturer: Panasonic Electronic Components; Manufacturer Part Number: ERJ-3EKF1802V; Power (Watts): 0.1W, 1/10W; Temperature Coefficient: ±100ppm/°C; Supplier 1: Digi-Key; Supplier Part Number 1: P18.0KHCT-ND; RoHS: RoHS Compliant; Category: Resistors; Stock 1: 194634; Pricing 1: 1=0.1, 10=0.021, 100=0.0087, 1000=0.00389, 2500=0.00338 (USD); Packaging: Cut Tape (CT); Part Status: Active; Composition: Thick Film; Features: Automotive AEC-Q200; Operating Temperature: -55°C ~ 155°C; Package / Case: 0603 (1608 Metric); Supplier Device Package: 0603; Size / Dimension: 0.063" L x 0.031" W (1.60mm x 0.80mm); Height - Seated (Max): 0.022" (0.55mm); Failure Rate: -; ComponentLink1URL: https://industrial.panasonic.com/cdbs/www-data/pdf/RDA0000/AOA0000C304.pdf; ComponentLink1Description: https://industrial.panasonic.com/cdbs/www-data/pdf/RDA0000/AOA0000C304.pdf
footprint RESC1608X55N (Chip Resistor, Body 1.6x0.8mm, 0603, IPC Medium Density)
pins: 1, 2

## RES_20K_0402_1%
designator R?, comment value 20K  (hidden comment: Thick Film)
Resistor SMD chip 20k Ohm 0.063W 5% 0402; Ratings: 1/16 W; Tolerance: ±1%; Package / Case: 0402 (1005 Metric); Supplier 1: Digi-Key; Supplier Part Number 1: 311-20KJRCT-ND
footprint RESC1005X40N (Chip Resistor, Body 1.0x0.5mm, EIA 0402, IPC Medium Density)
pins: 1, 2

## RES_20R_1206_0.5W_1%
designator R?, comment value 20R  Tolerance: ±1%  (hidden comment: Thick Film)
Resistor SMD chip 20 Ohm 0.5W 1% 1206; Manufacturer 1: Stackpole Electronics Inc; Manufacturer Part Number 1: RNCP1206FTD20R0; Ratings: 1/2W; SCDType: undef; Package / Case: 1206 (3216 Metric); Supplier 1: Digi-Key; Supplier Part Number 1: RNCP1206FTD20R0CT-ND; Features: Anti-Sulfur
footprint RESC3216X70N (Chip Resistor, Body 3.2x1.6mm, 1206, IPC Medium Density)
pins: 1, 2

## RES_20R_1206_5%
designator R?, comment value 20R  (hidden comment: Thick Film)
Resistor SMD chip 20 Ohm 0.25W 5% 1206; Manufacturer 1: Yageo; Manufacturer Part Number 1: RC1206JR-0720RL; Ratings: 1/4W; SCDType: spec; Package / Case: 1206 (3216 metric); Tolerance: ±5%; Supplier 1: Digi-Key; Supplier Part Number 1: 311-20ERCT-ND
footprint RESC3216X70N (Chip Resistor, Body 3.2x1.6mm, 1206, IPC Medium Density)
pins: 1, 2

## RES_22K_0402_5%
designator R?, comment value 22K  (hidden comment: Thick Film)
Resistor SMD chip 22k Ohm 0.063W 5% 0402; Manufacturer 1: Yageo; Manufacturer Part Number 1: RC0402JR-0722KL; Ratings: 1/16 W; SCDType: spec; Package / Case: 0402 (1005 Metric); Tolerance: ±5%; Supplier 1: Digi-Key; Supplier Part Number 1: 311-22KJRCT-ND; RoHS 1: RoHS Compliant; ComponentLink1URL: http://www.yageo.com/documents/recent/PYu-RC0402_51_RoHS_L_6.pdf; ComponentLink1Description: http://www.yageo.com/documents/recent/PYu-RC0402_51_RoHS_L_6.pdf; Supplier 2: Digi-Key; Supplier Part Number 2: RHM22KCECT-ND; Manufacturer 2: Rohm Semiconductor; Manufacturer Part Number 2: MCR01MRTJ223; RoHS 2: RoHS Compliant; ComponentLink2URL: http://rohmfs.rohm.com/en/products/databook/datasheet/passive/resistor/chip_resistor/mcr_g.pdf; ComponentLink2Description: http://rohmfs.rohm.com/en/products/databook/datasheet/passive/resistor/chip_resistor/mcr_g.pdf; Supplier 3: Digi-Key; Supplier Part Number 3: 541-22KJCT-ND; Manufacturer 3: Vishay Dale; Manufacturer Part Number 3: CRCW040222K0JNED; RoHS 3: RoHS Compliant; ComponentLink3URL: http://www.vishay.com/doc?20035; ComponentLink3Description: http://www.vishay.com/doc?20035; Supplier 4: Digi-Key; Supplier Part Number 4: P22KJCT-ND; Manufacturer 4: Panasonic Electronic Components; Manufacturer Part Number 4: ERJ-2GEJ223X; RoHS 4: RoHS Compliant; ComponentLink4URL: http://industrial.panasonic.com/www-cgi/jvcr13pz.cgi?E+PZ+3+AOA0001+ERJ2GEJ223X+7+WW; ComponentLink4Description: http://industrial.panasonic.com/www-cgi/jvcr13pz.cgi?E+PZ+3+AOA0001+ERJ2GEJ223X+7+WW
footprint RESC1005X40N (Chip Resistor, Body 1.0x0.5mm, EIA 0402, IPC Medium Density)
pins: 1, 2

## RES_22R_0603_5%
designator R?, comment value 22R  (hidden comment: Thick Film)
Resistor SMD chip 22 Ohm 0.1W 5% 0603; Manufacturer 1: Yageo; Manufacturer Part Number 1: RC0603JR-0722RL; Ratings: 1/10W; SCDType: spec; Temperature Coefficient: ±100ppm/°C; Tolerance: ±5%; Package / Case: 0603 (1608 metric); Case: 0603 (1608 metric); Supplier 1: Digi-Key; Supplier Part Number 1: 311-22GRDKR-ND; RoHS 1: RoHS Compliant; ComponentLink1URL: http://www.yageo.com/documents/recent/PYu-RC0603_51_RoHS_L_4.pdf; ComponentLink1Description: http://www.yageo.com/documents/recent/PYu-RC0603_51_RoHS_L_4.pdf; Supplier 2: Digi-Key; Supplier Part Number 2: 1276-5022-6-ND; Manufacturer 2: Samsung Electro-Mechanics America, Inc; Manufacturer Part Number 2: RC1608J220CS; RoHS 2: RoHS Compliant; ComponentLink2URL: http://www.samsungsem.com/servlet/FileDownload?filename=productcatalog/pdf/Chip_Resistor.pdf; ComponentLink2Description: http://www.samsungsem.com/servlet/FileDownload?filename=productcatalog/pdf/Chip_Resistor.pdf; Supplier 3: Digi-Key; Supplier Part Number 3: RMCF0603JT22R0DKR-ND; Manufacturer 3: Stackpole Electronics Inc; Manufacturer Part Number 3: RMCF0603JT22R0; RoHS 3: RoHS Compliant; ComponentLink3URL: http://www.seielect.com/Catalog/SEI-RMCF_RMCP.pdf; ComponentLink3Description: http://www.seielect.com/Catalog/SEI-RMCF_RMCP.pdf; Supplier 4: Digi-Key; Supplier Part Number 4: RHM22CGDKR-ND; Manufacturer 4: Rohm Semiconductor; Manufacturer Part Number 4: MCR03ERTJ220; RoHS 4: RoHS Compliant; ComponentLink4URL: http://rohmfs.rohm.com/en/products/databook/datasheet/passive/resistor/chip_resistor/mcr_g.pdf; ComponentLink4Description: http://rohmfs.rohm.com/en/products/databook/datasheet/passive/resistor/chip_resistor/mcr_g.pdf; Supplier 5: Digi-Key; Supplier Part Number 5: P22GDKR-ND; Manufacturer 5: Panasonic Electronic Components; Manufacturer Part Number 5: ERJ-3GEYJ220V; RoHS 5: RoHS Compliant; ComponentLink5URL: http://industrial.panasonic.com/www-cgi/jvcr13pz.cgi?E+PZ+3+AOA0001+ERJ3GEYJ220V+7+WW; ComponentLink5Description: http://industrial.panasonic.com/www-cgi/jvcr13pz.cgi?E+PZ+3+AOA0001+ERJ3GEYJ220V+7+WW
footprint RESC1608X55N (Chip Resistor, Body 1.6x0.8mm, 0603, IPC Medium Density)
pins: 1, 2

## RES_26R1_0805_1%
designator R?, comment value 26.1  Tolerance: ±1%  (hidden comment: Thick Film)
Resistor SMD chip 26.1k Ohm 0.125W 1% 0805; Manufacturer: Panasonic Electronic Components; Manufacturer Part Number: ERJ-6ENF26R1V; Power (Watts): 0.125W, 1/8W; Temperature Coefficient: ±100ppm/°C; Supplier 1: Digi-Key; Supplier Part Number 1: P26.1CCT-ND; RoHS: RoHS Compliant; Category: Resistors; Stock 1: 23109; Pricing 1: 1=0.1, 10=0.041, 100=0.0167, 1000=0.00749, 2500=0.0065 (USD); Packaging: Cut Tape (CT); Part Status: Active; Composition: Thick Film; Features: Automotive AEC-Q200; Operating Temperature: -55°C ~ 155°C; Package / Case: 0805 (2012 Metric); Supplier Device Package: 0805; Size / Dimension: 0.079" L x 0.049" W (2.00mm x 1.25mm); Height - Seated (Max): 0.028" (0.70mm); Failure Rate: -; ComponentLink1URL: https://industrial.panasonic.com/cdbs/www-data/pdf/RDA0000/AOA0000C304.pdf; ComponentLink1Description: https://industrial.panasonic.com/cdbs/www-data/pdf/RDA0000/AOA0000C304.pdf
footprint RESC2012X70N (Chip Resistor, Body 2.0x1.2mm, 0805, IPC Medium Density)
pins: 1, 2

## RES_27K4_0805_1%
designator R?, comment value 27K4  Tolerance: ±1%  (hidden comment: Thick Film)
Resistor SMD chip 27.4k Ohm 0.125W 1% 0805; Manufacturer 1: Vishay/Dale; Manufacturer Part Number 1: CRCW080527K4FKEA; Ratings: 1/8W; SCDType: spec; Package / Case: 0805 (2012 metric); Supplier 1: Digi-Key; Supplier Part Number 1: 541-27.4KCCT-ND
footprint RESC2012X70N (Chip Resistor, Body 2.0x1.2mm, 0805, IPC Medium Density)
pins: 1, 2

## RES_27K_0402_5%
designator R?, comment value 27K  (hidden comment: Thick Film)
Resistor SMD chip 27k Ohm 0.063W 5% 0402; Ratings: 1/16 W; SCDType: spec; Package / Case: 0402 (1005 Metric); Tolerance: ±5%; ComponentLink1URL: http://www.yageo.com/documents/recent/PYu-RC0402_51_RoHS_L_6.pdf; ComponentLink1Description: http://www.yageo.com/documents/recent/PYu-RC0402_51_RoHS_L_6.pdf; ComponentLink2URL: http://rohmfs.rohm.com/en/products/databook/datasheet/passive/resistor/chip_resistor/mcr_g.pdf; ComponentLink2Description: http://rohmfs.rohm.com/en/products/databook/datasheet/passive/resistor/chip_resistor/mcr_g.pdf; ComponentLink3URL: http://www.vishay.com/doc?20035; ComponentLink3Description: http://www.vishay.com/doc?20035; ComponentLink4URL: http://industrial.panasonic.com/www-cgi/jvcr13pz.cgi?E+PZ+3+AOA0001+ERJ2GEJ223X+7+WW; ComponentLink4Description: http://industrial.panasonic.com/www-cgi/jvcr13pz.cgi?E+PZ+3+AOA0001+ERJ2GEJ223X+7+WW; Supplier 1: Digi-Key; Supplier Part Number 1: 311-27KJRCT-ND
footprint RESC1005X40N (Chip Resistor, Body 1.0x0.5mm, EIA 0402, IPC Medium Density)
pins: 1, 2

## RES_27K_0805_1%
designator R?, comment value 27K0  Tolerance: ±1%  (hidden comment: Thick Film)
Resistor SMD chip 27.0k Ohm 0.125W 1% 0805; Manufacturer 1: Vishay/Dale; Manufacturer Part Number 1: CRCW080527K0FKEA; Ratings: 1/8W; SCDType: spec; Package / Case: 0805 (2012 metric); Supplier 1: Digi-Key; Supplier Part Number 1: 541-27.0KCCT-ND
footprint RESC2012X70N (Chip Resistor, Body 2.0x1.2mm, 0805, IPC Medium Density)
pins: 1, 2

## RES_27R_0402_5%
designator R?, comment value 27R  (hidden comment: Thick Film)
Resistor SMD chip 27 Ohm 0.1W 5% 0402; Ratings: 1/10W; SCDType: spec; Temperature Coefficient: ±100ppm/°C; Tolerance: ±5%; Package / Case: 0402; Case: 0402; ComponentLink1URL: http://www.yageo.com/documents/recent/PYu-RC0603_51_RoHS_L_4.pdf; ComponentLink1Description: http://www.yageo.com/documents/recent/PYu-RC0603_51_RoHS_L_4.pdf; ComponentLink2URL: http://www.samsungsem.com/servlet/FileDownload?filename=productcatalog/pdf/Chip_Resistor.pdf; ComponentLink2Description: http://www.samsungsem.com/servlet/FileDownload?filename=productcatalog/pdf/Chip_Resistor.pdf; ComponentLink3URL: http://www.seielect.com/Catalog/SEI-RMCF_RMCP.pdf; ComponentLink3Description: http://www.seielect.com/Catalog/SEI-RMCF_RMCP.pdf; ComponentLink4URL: http://rohmfs.rohm.com/en/products/databook/datasheet/passive/resistor/chip_resistor/mcr_g.pdf; ComponentLink4Description: http://rohmfs.rohm.com/en/products/databook/datasheet/passive/resistor/chip_resistor/mcr_g.pdf; ComponentLink5URL: http://industrial.panasonic.com/www-cgi/jvcr13pz.cgi?E+PZ+3+AOA0001+ERJ3GEYJ220V+7+WW; ComponentLink5Description: http://industrial.panasonic.com/www-cgi/jvcr13pz.cgi?E+PZ+3+AOA0001+ERJ3GEYJ220V+7+WW; Supplier 1: Digi-Key; Supplier Part Number 1: 311-27JRCT-ND
footprint RESC1005X40N (Chip Resistor, Body 1.0x0.5mm, EIA 0402, IPC Medium Density)
pins: 1, 2

## RES_30K9_0402_1%
designator R?, comment value 30.9K  Tolerance: ±1%  (hidden comment: Thick Film)
Resistor SMD chip 30.9K 1% 0402; Manufacturer: Yageo; Manufacturer Part Number: RC0603FR-074K7L; Ratings: 1/10W; SCDType: undef; Package / Case: 0402 (1608 Metric); Supplier 1: Digi-Key; Supplier Part Number 1: P30.9KLCT-ND
footprint RESC1005X40N (Chip Resistor, Body 1.0x0.5mm, EIA 0402, IPC Medium Density)
pins: 1, 2

## RES_31K6_0603_1%
designator R?, comment value 31K6  Tolerance: ±1%  (hidden comment: Thick Film)
Resistor SMD chip 31.6k Ohm 0.1W 1% 0603; Manufacturer 1: Yageo; Manufacturer Part Number 1: RC0603FR-0731K6L; Ratings: 1/10W; SCDType: spec; Package / Case: 0603 (1608 Metric); Supplier 1: Digi-Key; Supplier Part Number 1: 311-31.6KHRCT-ND
footprint RESC1608X55N (Chip Resistor, Body 1.6x0.8mm, 0603, IPC Medium Density)
pins: 1, 2

## RES_35.7K_0603_1%
designator R?, comment value 39R  Supplier Part Number 1: P35.7KHCT-ND  (hidden comment: Thick Film)
Resistor SMD chip 35.7K Ohm 0.1W 1% 0603; Ratings: 1/10 W; Tolerance: ±5%; SCDType: spec; Package / Case: 0603 (1608 metric); ComponentLink1URL: http://www.vishay.com/doc?20035; ComponentLink1Description: http://www.vishay.com/doc?20035; ComponentLink2URL: http://www.yageo.com/documents/recent/PYu-RC0603_51_RoHS_L_4.pdf; ComponentLink2Description: http://www.yageo.com/documents/recent/PYu-RC0603_51_RoHS_L_4.pdf; Supplier 1: Digi-Key
footprint RESC1608X55N (Chip Resistor, Body 1.6x0.8mm, 0603, IPC Medium Density)
pins: 1, 2

## RES_36K5_0805_1%
designator R?, comment value 36K5  Tolerance: ±1%  (hidden comment: Thick Film)
Resistor SMD chip 36.5k Ohm 0.125W 1% 0805; Manufacturer 1: Vishay/Dale; Manufacturer Part Number 1: CRCW080536K5FKEA; Ratings: 1/8W; SCDType: spec; Package / Case: 0805 (2012 metric); Supplier 1: Digi-Key; Supplier Part Number 1: 541-36.5KCCT-ND
footprint RESC2012X70N (Chip Resistor, Body 2.0x1.2mm, 0805, IPC Medium Density)
pins: 1, 2

## RES_39R_0603_5%
designator R?, comment value 39R  (hidden comment: Thick Film)
Resistor SMD chip 39 Ohm 0.1W 5% 0603; Manufacturer 1: Vishay Dale; Manufacturer Part Number 1: CRCW060339R0JNEA; Ratings: 1/10 W; SCDType: spec; Package / Case: 0603 (1608 metric); Tolerance: ±5%; Manufacturer 2: Yageo; Manufacturer Part Number 2: RC0603JR-0739RL; Supplier 1: Digi-Key; Supplier Part Number 1: 541-39GCT-ND; ComponentLink1URL: http://www.vishay.com/doc?20035; ComponentLink1Description: http://www.vishay.com/doc?20035; Supplier 2: Digi-Key; Supplier Part Number 2: 311-39GRCT-ND; ComponentLink2URL: http://www.yageo.com/documents/recent/PYu-RC0603_51_RoHS_L_4.pdf; ComponentLink2Description: http://www.yageo.com/documents/recent/PYu-RC0603_51_RoHS_L_4.pdf
footprint RESC1608X55N (Chip Resistor, Body 1.6x0.8mm, 0603, IPC Medium Density)
pins: 1, 2

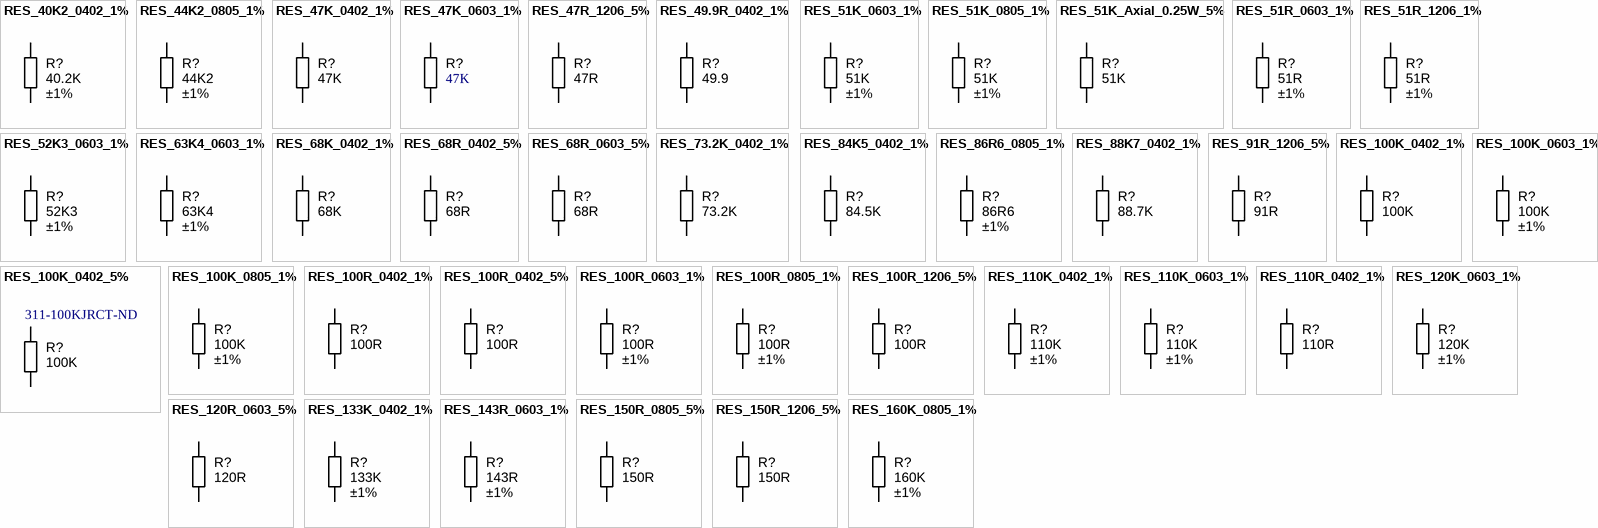
[diagram p3: symbols RES_40K2_0402_1% to RES_160K_0805_1%]

## RES_40K2_0402_1%
designator R?, comment value 40.2K  Tolerance: ±1%  (hidden comment: Thick Film)
Resistor SMD chip 40.2K 1% 0402; Manufacturer: Yageo; Manufacturer Part Number: RC0603FR-074K7L; Ratings: 1/10W; SCDType: undef; Package / Case: 0402 (1608 Metric); Supplier 1: Digi-Key; Supplier Part Number 1: 311-40.2KLRCT-ND
footprint RESC1005X40N (Chip Resistor, Body 1.0x0.5mm, EIA 0402, IPC Medium Density)
pins: 1, 2

## RES_44K2_0805_1%
designator R?, comment value 44K2  Tolerance: ±1%  (hidden comment: Thick Film)
Resistor SMD chip 44.2k Ohm 0.125W 1% 0805; Manufacturer: Panasonic Electronic Components; Manufacturer Part Number: ERJ-3EKF4422V; Power (Watts): 0.1W, 1/10W; Temperature Coefficient: ±100ppm/°C; Supplier 1: Digi-Key; Supplier Part Number 1: P44.2KHCT-ND; RoHS: RoHS Compliant; Category: Resistors; Stock 1: 148471; Pricing 1: 1=0.1, 10=0.021, 100=0.0087, 1000=0.00389, 2500=0.00338 (USD); Packaging: Cut Tape (CT); Part Status: Active; Composition: Thick Film; Features: Automotive AEC-Q200; Operating Temperature: -55°C ~ 155°C; Package / Case: 0603 (1608 Metric); Supplier Device Package: 0603; Size / Dimension: 0.063" L x 0.031" W (1.60mm x 0.80mm); Height - Seated (Max): 0.022" (0.55mm); Failure Rate: -; ComponentLink1URL: https://industrial.panasonic.com/cdbs/www-data/pdf/RDA0000/AOA0000C304.pdf; ComponentLink1Description: https://industrial.panasonic.com/cdbs/www-data/pdf/RDA0000/AOA0000C304.pdf
footprint RESC2012X70N (Chip Resistor, Body 2.0x1.2mm, 0805, IPC Medium Density)
pins: 1, 2